# EAGLE library part SXBP-140+ (library SeniorDesign)
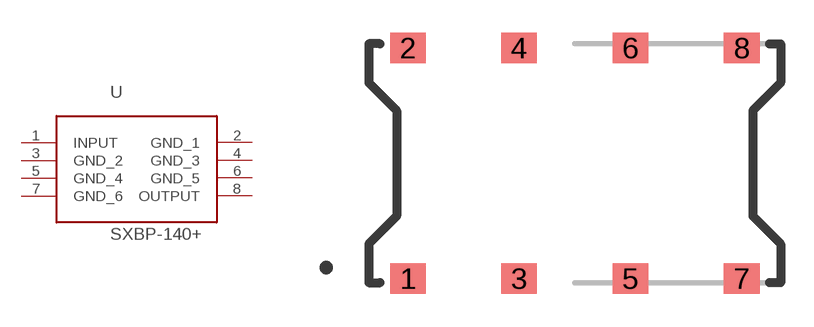
[diagram p0: symbol with the pads of SXBP-140+; footprint SXBP-140+]

Designator prefix -

## SXBP-140+  [SXBP-140+]
1  INPUT
2  GND_1
3  GND_2
4  GND_3
5  GND_4
6  GND_5
7  GND_6
8  OUTPUT

## Footprint SXBP-140+ (pad centres in mm)
smd 1.626 x 1.397: 1 -7.62,-5.397; 2 -7.62,5.144; 3 -2.54,-5.397; 4 -2.54,5.144; 5 2.54,-5.397; 6 2.54,5.144; 7 7.62,-5.397; 8 7.62,5.144